# Altium integrated library B06-1x15-AG1-G.IntLib: 1 symbol
Pins are listed as number, name and electrical type; pins without a type are passive.

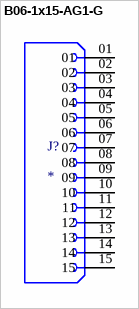
[diagram p0: symbol B06-1x15-AG1-G]

## B06-1x15-AG1-G
designator J?
MP: B06-1x15-AG1-G; Price: None; Value: *; Package: None; Availability: Unavailable
footprint VALCON_B06-1x15-AG1-G
pins: 01, 02, 03, 04, 05, 06, 07, 08, 09, 10, 11, 12, 13, 14, 15